# Altium footprint library Ferrite Bead.PcbLib: 4 footprints
Each footprint in its own frame and in the unit in brackets; x right, y up, seen from the top. Pads: shape width x height; smd on the part's side, far side on the other; paste and mask are expansions set on the pad; w line width, h text height; cw(c..) or ccw(c..) is an arc to the next point about the centre after c.
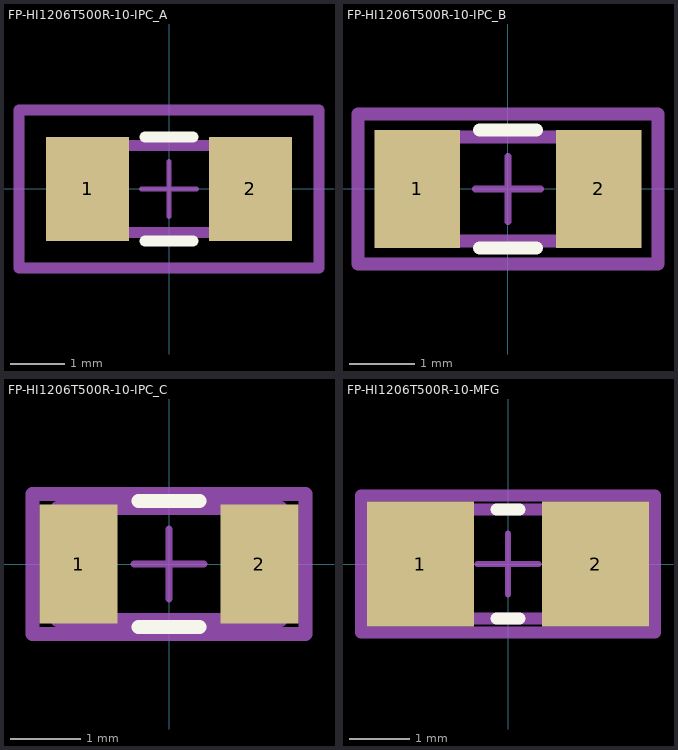
[diagram p0: the footprints below, top view; thin cyan lines are the x and y axes]

## FP-HI1206T500R-10-IPC_A [mm]
pads (2):
  rect 1.515x1.906 smd paste+0 mask+0: 1(-1.496,0) 2(1.496,0)
Top Overlay:
  lines w0.2: -0.438,-0.953 0.438,-0.953 ; -0.438,0.953 0.438,0.953
Top Assembly:
  lines w0.2: -2.753,-1.453 2.753,-1.453 2.753,1.453 -2.753,1.453 -2.753,-1.453
  text ".Designator" at 0,0.189 h1
Top 3D Body:
  lines w0.2: -1.6,-0.8 1.6,-0.8 1.6,0.8 -1.6,0.8 -1.6,-0.8
Top Courtyard:
  lines w0.2: -2.753,-1.453 2.753,-1.453 2.753,1.453 -2.753,1.453 -2.753,-1.453
Top Component Center:
  lines w0.1: -0.5,0 0.5,0 ; 0,-0.5 0,0.5
3D body "FBead_Laird_HI1206T500R-10_eec.STEP": height 0.25, standoff 0, extent -2.753,-1.453 2.753,1.453

## FP-HI1206T500R-10-IPC_B [mm]
pads (2):
  rect 1.315x1.806 smd paste+0 mask+0: 1(-1.396,0) 2(1.396,0)
Top Overlay:
  lines w0.2: -0.438,-0.903 0.438,-0.903 ; -0.438,0.903 0.438,0.903
Top Assembly:
  lines w0.2: -2.303,-1.153 2.303,-1.153 2.303,1.153 -2.303,1.153 -2.303,-1.153
  text ".Designator" at 0,0.189 h1
Top 3D Body:
  lines w0.2: -1.6,-0.8 1.6,-0.8 1.6,0.8 -1.6,0.8 -1.6,-0.8
Top Courtyard:
  lines w0.2: -2.303,-1.153 2.303,-1.153 2.303,1.153 -2.303,1.153 -2.303,-1.153
Top Component Center:
  lines w0.1: -0.5,0 0.5,0 ; 0,-0.5 0,0.5
3D body "FBead_Laird_HI1206T500R-10_eec.STEP": height 0.25, standoff 0, extent -2.303,-1.153 2.303,1.153

## FP-HI1206T500R-10-IPC_C [mm]
pads (2):
  rect 1.115x1.706 smd paste+0 mask+0: 1(-1.296,0) 2(1.296,0)
Top Overlay:
  lines w0.2: -0.438,-0.9 0.438,-0.9 ; -0.438,0.9 0.438,0.9
Top Assembly:
  lines w0.2: -1.953,-1 1.953,-1 1.953,1 -1.953,1 -1.953,-1
  text ".Designator" at 0,0.189 h1
Top 3D Body:
  lines w0.2: -1.6,-0.8 1.6,-0.8 1.6,0.8 -1.6,0.8 -1.6,-0.8
Top Courtyard:
  lines w0.2: -1.953,-1 1.953,-1 1.953,1 -1.953,1 -1.953,-1
Top Component Center:
  lines w0.1: -0.5,0 0.5,0 ; 0,-0.5 0,0.5
3D body "FBead_Laird_HI1206T500R-10_eec.STEP": height 0.25, standoff 0, extent -1.953,-1 1.953,1

## FP-HI1206T500R-10-MFG [mm]
pads (2):
  rect 1.76x2.06 smd paste+0 mask+0: 1(-1.445,0) 2(1.445,0)
Top Overlay:
  lines w0.2: -0.19,-0.9 0.19,-0.9 ; -0.19,0.9 0.19,0.9
Top Assembly:
  lines w0.2: -2.425,-1.13 2.425,-1.13 2.425,1.13 -2.425,1.13 -2.425,-1.13
  text ".Designator" at 0,0.189 h1
Top 3D Body:
  lines w0.2: -1.7,-0.9 1.7,-0.9 1.7,0.9 -1.7,0.9 -1.7,-0.9
Top Courtyard:
  lines w0.2: -2.425,-1.13 2.425,-1.13 2.425,1.13 -2.425,1.13 -2.425,-1.13
Top Component Center:
  lines w0.1: -0.5,0 0.5,0 ; 0,-0.5 0,0.5
3D body "FBead_Laird_HI1206T500R-10_eec.STEP": height 0.25, standoff 0, extent -2.425,-1.13 2.425,1.13